# Altium schematic symbol library Logic.SchLib: 3 symbols
Pins are listed as number, name and electrical type; pins without a type are passive.

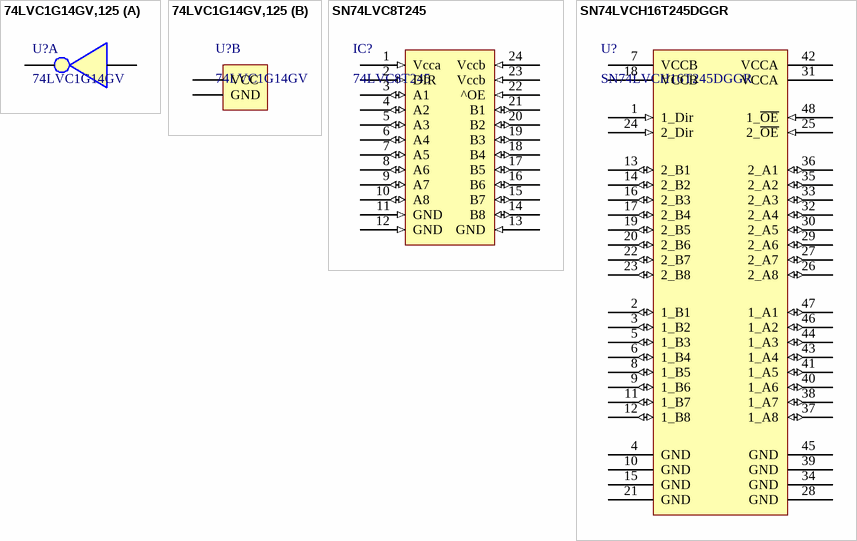
[diagram p0: symbols 74LVC1G14GV,125 to SN74LVCH16T245DGGR]

## 74LVC1G14GV,125
designator U?, comment 74LVC1G14GV
Inverter, Schmitt Trigger, 74LVC1G14, 1 Input, 1.65 V to 5.5 V; Supplier 1: Mouser; Supplier 2: Farnell; Supplier Part Number 1: 771-74LVC1G14GV; Supplier Part Number 2: 2425498
footprint 74LVC1G14GV,125 (Inverter, Schmitt Trigger, 74LVC1G14, 1 Input)
part A pins: 2, 4
part B pins: 3 GND, 5 VCC

## SN74LVC8T245
designator IC?, comment 74LVC8T245
Supplier 1: Farnell; Supplier Part Number 1: 2463919
footprint SOIC127P1030X265-24N (SOIC, 24-Leads, Body 15.40x7.50mm, Pitch 1.27mm, IPC Medium Density)
pins: 1 Vcca (in), 2 DIR (in), 3 A1 (io), 4 A2 (io), 5 A3 (io), 6 A4 (io), 7 A5 (io), 8 A6 (io), 9 A7 (io), 10 A8 (io), 11 GND (in), 12 GND (in), 13 GND (in), 14 B8 (io), 15 B7 (io), 16 B6 (io), 17 B5 (io), 18 B4 (io), 19 B3 (io), 20 B2 (io), 21 B1 (io), 22 ^OE (in), 23 Vccb (in), 24 Vccb (in)

## SN74LVCH16T245DGGR
designator U?
Bus Transceiver, LVC Family, 16 Input, 32 mA; Supplier 1: Farnell; Supplier 2: RSComponents; Supplier 3: Mouser; Supplier Part Number 1: 2308692; Supplier Part Number 2: 814-3916P; Supplier Part Number 3: 595-SN74LVCH16T245GR
footprint SN74LVCH16T245DGGR (Bus Transceiver, LVC Family, 16 Input)
pins: 1 1_Dir (in), 2 1_B1 (io), 3 1_B2 (io), 4 GND, 5 1_B3 (io), 6 1_B4 (io), 7 VCCB (power), 8 1_B5 (io), 9 1_B6 (io), 10 GND, 11 1_B7 (io), 12 1_B8 (io), 13 2_B1 (io), 14 2_B2 (io), 15 GND, 16 2_B3 (io), 17 2_B4 (io), 18 VCCB (power), 19 2_B5 (io), 20 2_B6 (io), 21 GND, 22 2_B7 (io), 23 2_B8 (io), 24 2_Dir (in), 25 2_~{OE} (in), 26 2_A8 (io), 27 2_A7 (io), 28 GND, 29 2_A6 (io), 30 2_A5 (io), 31 VCCA (power), 32 2_A4 (io), 33 2_A3 (io), 34 GND, 35 2_A2 (io), 36 2_A1 (io), 37 1_A8 (io), 38 1_A7 (io), 39 GND, 40 1_A6 (io), 41 1_A5 (io), 42 VCCA (power), 43 1_A4 (io), 44 1_A3 (io), 45 GND, 46 1_A2 (io), 47 1_A1 (io), 48 1_~{OE} (in)